# Altium footprint library anotherCWF-3.PcbLib: 1 footprints
Each footprint in its own frame and in the unit in brackets; x right, y up, seen from the top. Pads: shape width x height; smd on the part's side, far side on the other; paste and mask are expansions set on the pad; w line width, h text height; cw(c..) or ccw(c..) is an arc to the next point about the centre after c.
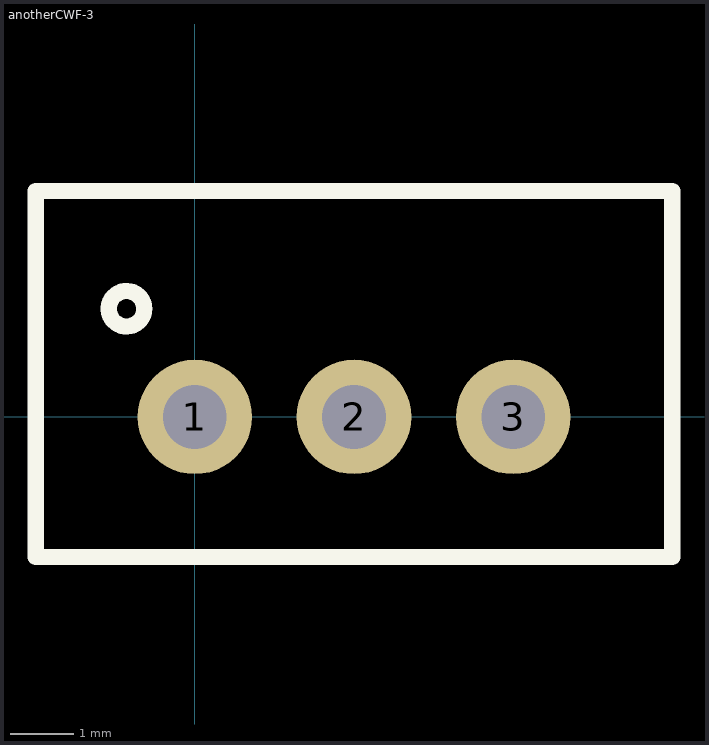
[diagram p0: the footprint, top view; thin cyan lines are the x and y axes]

## anotherCWF-3 [mm]
pads (3):
  round 1.8 hole 1: 1(0,0) 2(2.5,0) 3(5,0)
Top Overlay:
  circle w0.254: c-1.075,1.7 r0.28
  lines w0.254: -2.5,-2.2 7.5,-2.2 7.5,3.55 -2.5,3.55 -2.5,-2.2
3D body "User Library-CWF-3.step": height 7, standoff -3.5, extent -2.5,-2.2 7.5,3.55